# Altium footprint library WSON-10_EPAD_2.5x2.5.PcbLib: 1 footprints
Each footprint in its own frame and in the unit in brackets; x right, y up, seen from the top. Pads: shape width x height; smd on the part's side, far side on the other; paste and mask are expansions set on the pad; w line width, h text height; cw(c..) or ccw(c..) is an arc to the next point about the centre after c.
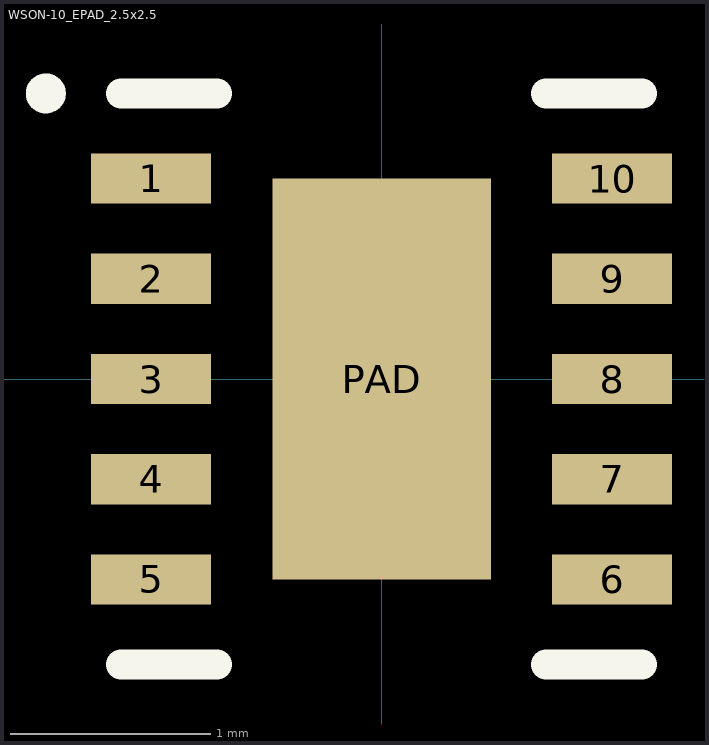
[diagram p0: the footprint, top view; thin cyan lines are the x and y axes]

## WSON-10_EPAD_2.5x2.5 [mm] "WSON 10 pin, 0.5mm pitch, Exposed Pad, 2.5mm x 2.5mm, 0.8mm height"
height 0.8
pads (11):
  rect 0.6x0.25 smd: 1(-1.15,1) 2(-1.15,0.5) 3(-1.15,0) 4(-1.15,-0.5) 5(-1.15,-1) 6(1.15,-1) 7(1.15,-0.5) 8(1.15,0) 9(1.15,0.5) 10(1.15,1)
  rect 1.09x2 smd: PAD(0,0)
Top Overlay:
  circle w0.1: c-1.675,1.425 r0.05
  lines w0.15: -1.3,-1.425 -0.82,-1.425 ; -1.3,1.425 -0.82,1.425 ; 0.82,-1.425 1.3,-1.425 ; 0.82,1.425 1.3,1.425
3D body "WSON-10_EPAD_2.5x2.5.step": height 0.8, standoff 0, extent -1.301,-1.3 1.301,1.3